# Altium schematic symbol library POWER_MODULE.Schlib: 1 symbol
Pins are listed as number, name and electrical type; pins without a type are passive.

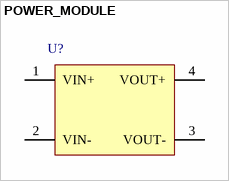
[diagram p0: symbol POWER_MODULE]

## POWER_MODULE
designator U?  (value not drawn)
Generic Power Supply Module
pins: 1 VIN+, 2 VIN-, 3 VOUT-, 4 VOUT+